# Altium schematic symbol library XCL232D091KR-G.SCHLIB: 1 symbol
Pins are listed as number, name and electrical type; pins without a type are passive.

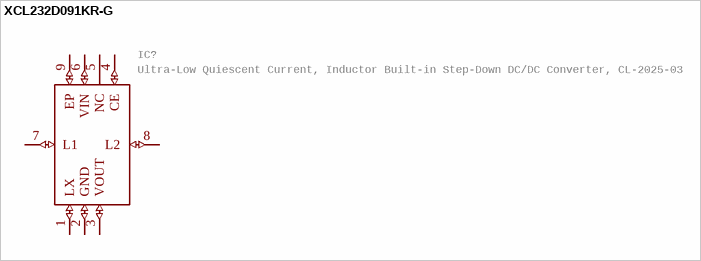
[diagram p0: symbol XCL232D091KR-G]

## XCL232D091KR-G
designator IC?, comment Ultra-Low Quiescent Current, Inductor Built-in Step-Down DC/DC Converter, CL-2025-03   Source:  Datasheet
Manufacturer_Name: Torex; GateName_1: G$1; SymbolName_1: XCL232D091KR-G; LibraryName: XCL232D091KR-G; DeviceSetName: XCL232D091KR-G; Package: XCL232B051KRG; Mouser_Part_Number: 865-XCL232D091KR-G; Mouser_Price-Stock: https://www.mouser.co.uk/ProductDetail/Torex-Semiconductor/XCL232D091KR-G?qs=Znm5pLBrcAIAF3XJtDZJsg%3D%3D; Manufacturer_Part_Number: XCL232D091KR-G; Description: Ultra-Low Quiescent Current, Inductor Built-in Step-Down DC/DC Converter, CL-2025-03; Height: 1.04mm
footprint XCL232B051KRG
pins: 1 LX (io), 2 GND (io), 3 VOUT (io), 4 CE (io), 5 NC, 6 VIN (io), 7 L1 (io), 8 L2 (io), 9 EP (io)